# EAGLE library part RFM95 (library Dennistries-Josh)
RFM95 LoRa Transciever
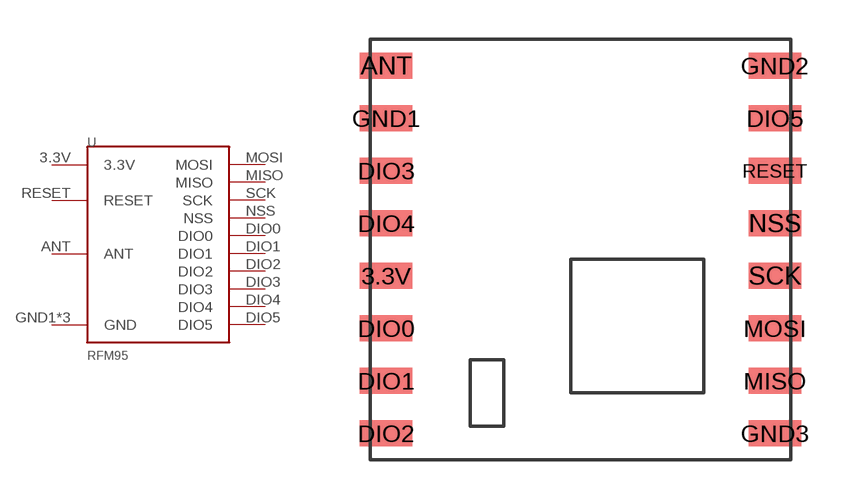
[diagram p7: symbol with the pads of RFM95; footprint RFM95]

Designator prefix -

## RFM95  [RFM95]
3.3V  3.3V
ANT  ANT
DIO0  DIO0
DIO1  DIO1
DIO2  DIO2
DIO3  DIO3
DIO4  DIO4
DIO5  DIO5
GND1  GND
GND2  GND
GND3  GND
MISO  MISO
MOSI  MOSI
NSS  NSS
RESET  RESET
SCK  SCK

## Footprint RFM95 (pad centres in mm)
smd 2 x 1: 3.3V -7.02,-0.62; ANT -7.02,7.38; DIO0 -7.02,-2.62; DIO1 -7.02,-4.62; DIO2 -7.02,-6.62; DIO3 -7.02,3.38; DIO4 -7.02,1.38; DIO5 7.78,5.38; GND1 -7.02,5.38; GND2 7.78,7.38; GND3 7.78,-6.62; MISO 7.78,-4.62; MOSI 7.78,-2.62; NSS 7.78,1.38; RESET 7.78,3.38; SCK 7.78,-0.62